# Altium footprint library SCHOTTKY-DIODE-600mA-30V.PcbLib: 1 footprints
Each footprint in its own frame and in the unit in brackets; x right, y up, seen from the top. Pads: shape width x height; smd on the part's side, far side on the other; paste and mask are expansions set on the pad; w line width, h text height; cw(c..) or ccw(c..) is an arc to the next point about the centre after c.
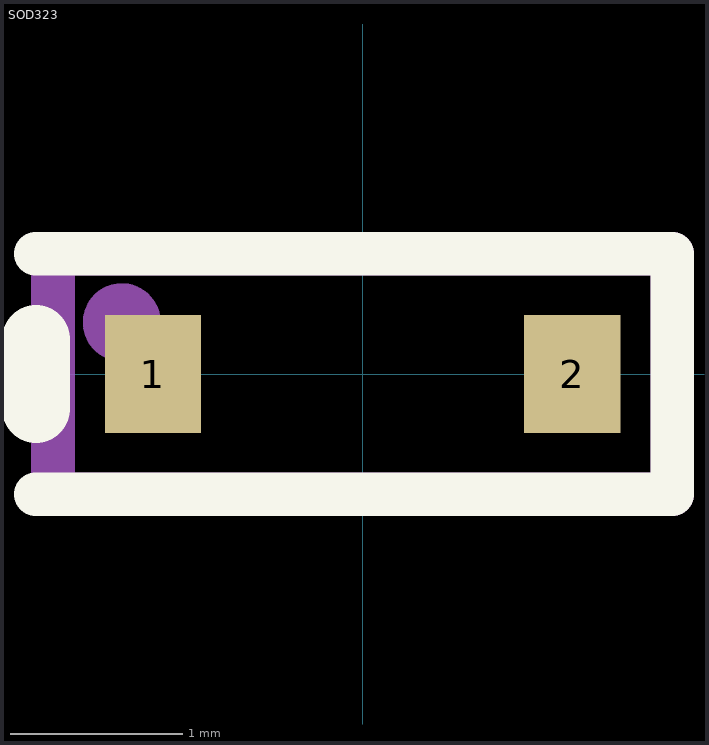
[diagram p0: the footprint, top view; thin cyan lines are the x and y axes]

## SOD323 [mil]
pads (2):
  rect 22x27 smd mask+3: 1(-48,0) 2(48,0)
Top Overlay:
  lines w10: -74.8,-27.56 70.87,-27.56 70.87,27.56 -74.8,27.56
  lines w15.75: -74.8,-7.87 -74.8,7.87
Mechanical 29:
  circle w10: c-55.12,11.81 r3.94
  lines w10: -70.87,-27.56 70.87,-27.56 70.87,27.56 -70.87,27.56 -70.87,-27.56
  text ".Designator" at -39.37,-7.87 h15.75
3D body "SOD323.step": height 38.78, standoff -0.2, extent -49.21,-24.6 49.21,24.61